# EAGLE library part DS1085 (library untitled)
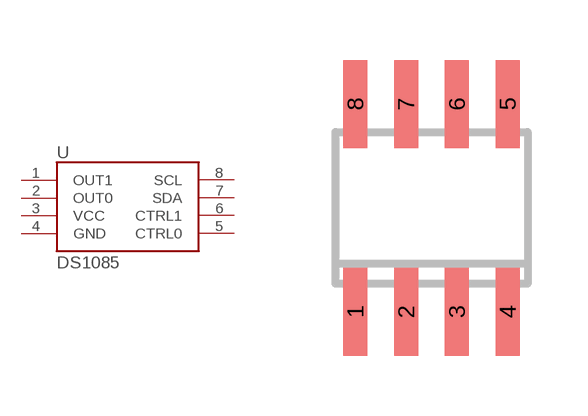
[diagram p16: symbol with the pads of SO-08; footprint SO-08]

Designator prefix -

## DS1085  [SO-08]
1  OUT1  out
2  OUT0  out
3  VCC  pwr
4  GND  pwr
5  CTRL0  in
6  CTRL1  in
7  SDA
8  SCL  in

## Footprint SO-08 (pad centres in mm)
Small Outline Narrow Plastic Gull Wing 150-mil body, package type SN
smd 0.6 x 2.2: 1 -1.905,-2.6; 2 -0.635,-2.6; 3 0.635,-2.6; 4 1.905,-2.6; 5 1.905,2.6; 6 0.635,2.6; 7 -0.635,2.6; 8 -1.905,2.6